# Altium footprint library Bagryanets-PcbLib.PcbLib: 38 footprints (part 1 of 3)
Each footprint in its own frame and in the unit in brackets; x right, y up, seen from the top. Pads: shape width x height; smd on the part's side, far side on the other; paste and mask are expansions set on the pad; w line width, h text height; cw(c..) or ccw(c..) is an arc to the next point about the centre after c.
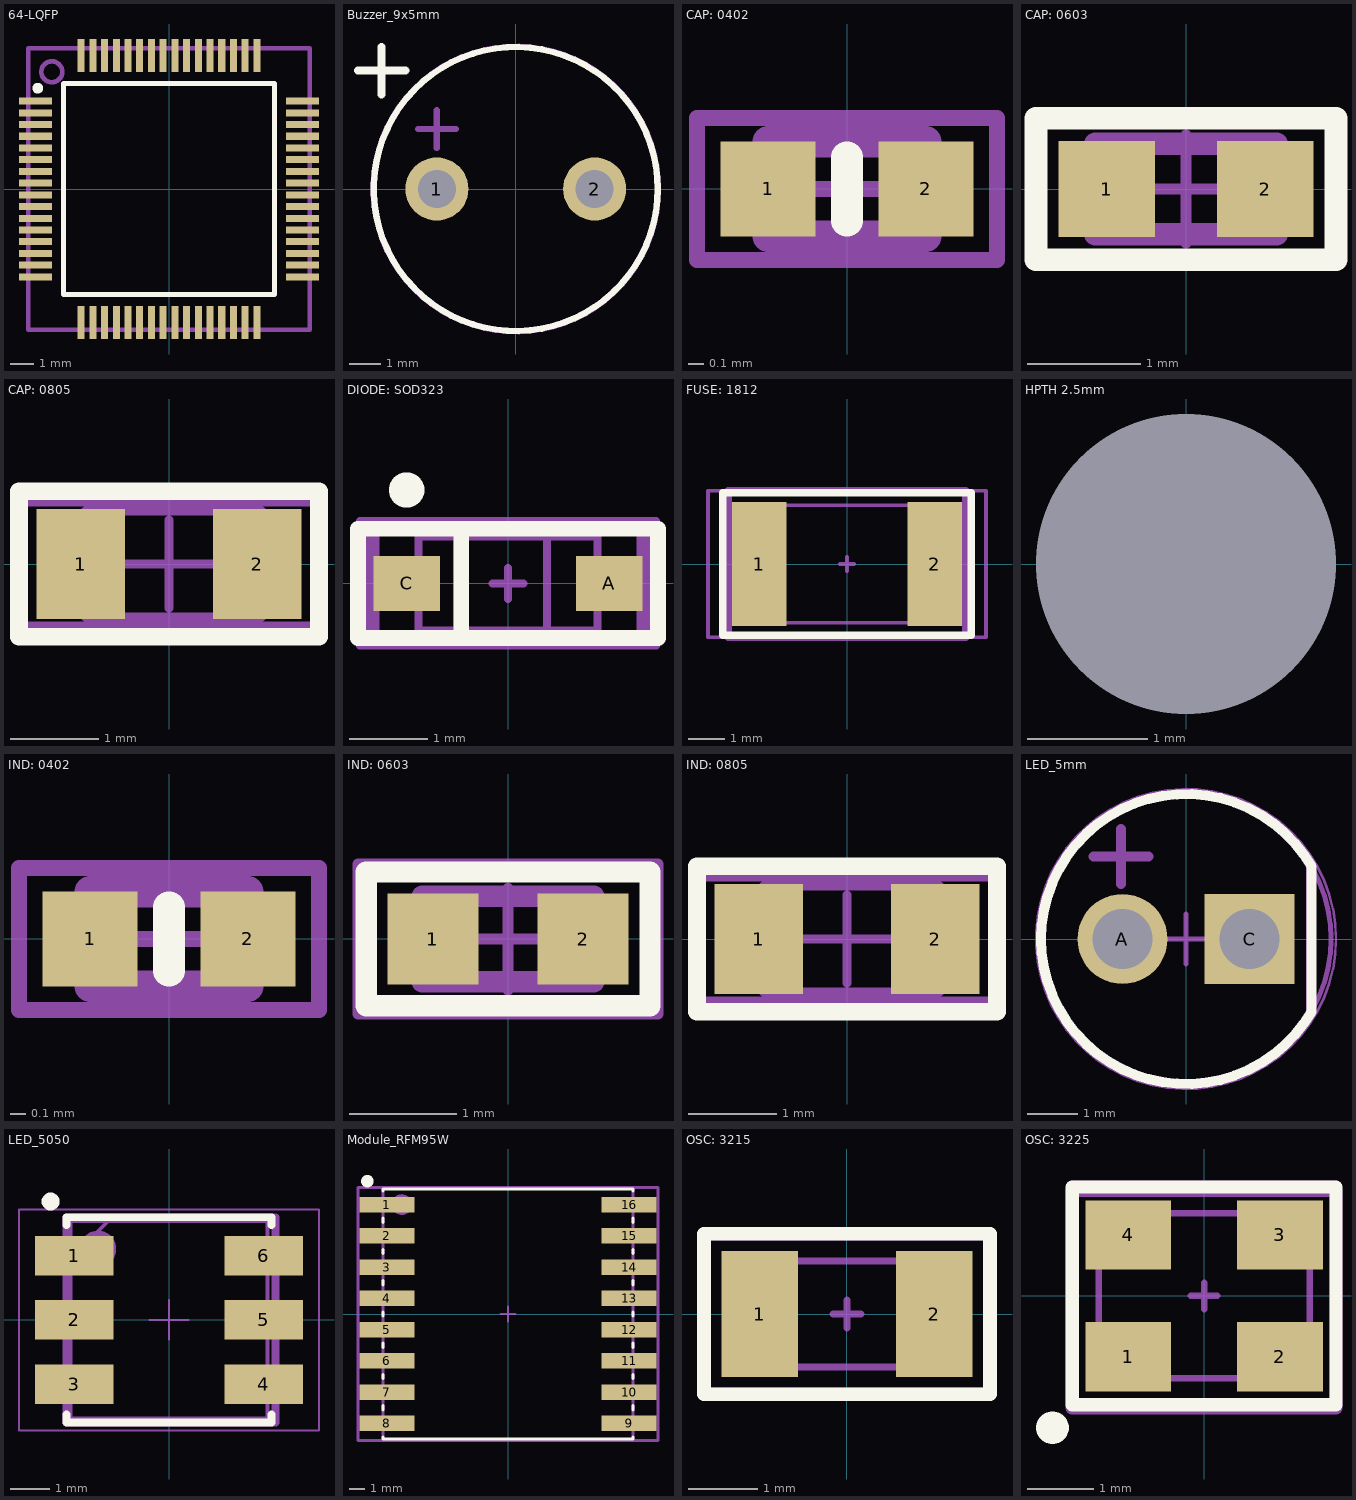
[diagram p0: the footprints below, top view; thin cyan lines are the x and y axes]

## 64-LQFP [mm] "Thin QFP, 64-Leads, Body 10x10mm, Pitch 0.5mm, IPC Medium Density"
height 1.6
pads (64):
  rect 1.4x0.3 smd: 1(-5.7,3.75) 2(-5.7,3.25) 3(-5.7,2.75) 4(-5.7,2.25) 5(-5.7,1.75) 6(-5.7,1.25) 7(-5.7,0.75) 8(-5.7,0.25) 9(-5.7,-0.25) 10(-5.7,-0.75) 11(-5.7,-1.25) 12(-5.7,-1.75) 13(-5.7,-2.25) 14(-5.7,-2.75) 15(-5.7,-3.25) 16(-5.7,-3.75) 33(5.7,-3.75) 34(5.7,-3.25) 35(5.7,-2.75) 36(5.7,-2.25) 37(5.7,-1.75) 38(5.7,-1.25) 39(5.7,-0.75) 40(5.7,-0.25) 41(5.7,0.25) 42(5.7,0.75) 43(5.7,1.25) 44(5.7,1.75) 45(5.7,2.25) 46(5.7,2.75) 47(5.7,3.25) 48(5.7,3.75)
  rect 0.3x1.4 smd: 17(-3.75,-5.7) 18(-3.25,-5.7) 19(-2.75,-5.7) 20(-2.25,-5.7) 21(-1.75,-5.7) 22(-1.25,-5.7) 23(-0.75,-5.7) 24(-0.25,-5.7) 25(0.25,-5.7) 26(0.75,-5.7) 27(1.25,-5.7) 28(1.75,-5.7) 29(2.25,-5.7) 30(2.75,-5.7) 31(3.25,-5.7) 32(3.75,-5.7) 49(3.75,5.7) 50(3.25,5.7) 51(2.75,5.7) 52(2.25,5.7) 53(1.75,5.7) 54(1.25,5.7) 55(0.75,5.7) 56(0.25,5.7) 57(-0.25,5.7) 58(-0.75,5.7) 59(-1.25,5.7) 60(-1.75,5.7) 61(-2.25,5.7) 62(-2.75,5.7) 63(-3.25,5.7) 64(-3.75,5.7)
Top Overlay:
  circle w0.254: c-5.6,4.3 r0.1
  lines w0.2: -4.5,-4.5 4.5,-4.5 4.5,4.5 -4.5,4.5 -4.5,-4.5
Top Assembly:
  circle w0.2: c-5,5 r0.447
  lines w0.2: -6,-6 -6,6 6,6 6,-6 -6,-6
  text ".Designator" at 0.25,0.75 h1.5
3D body "DD_LQFP-64-10x10mm-P0.5mm.step": height 1.5, standoff 0, extent -6,-6 6,6

## Buzzer_9x5mm [mm]
pads (2):
  round 2 hole 1.2: 1(-2.5,0) 2(2.5,0)
Top Overlay:
  circle w0.2: c0,0 r4.5
  lines w0.254: -5,3.75 -3.5,3.75 ; -4.25,3 -4.25,4.5
Top Assembly:
  circle w0.2: c0,0 r4.507
  lines w0.2: -3.1,1.9 -1.9,1.9 ; -2.5,1.3 -2.5,2.5
3D body "Buzzer_9050.step": height 5, standoff -5.5, extent -4.75,-4.75 4.75,4.75

## CAP: 0402 [mm]
height 0.35
pads (2):
  rect 0.6x0.6 smd: 1(-0.5,0) 2(0.5,0)
Top Overlay:
  lines w0.2: 0,-0.2 0,0.2
Mechanical 2:
  lines w0.1: -0.25,0 0.25,0 ; 0,-0.25 0,0.25 ; -0.95,-0.45 -0.95,0.45 0.95,0.45 0.95,-0.45 -0.95,-0.45 ; -0.5,-0.25 -0.5,0.25 0.5,0.25 0.5,-0.25 -0.5,-0.25
Top Assembly:
  lines w0.2: -0.5,-0.3 -0.5,0.3 0.5,0.3 0.5,-0.3 -0.5,-0.3
3D body "C_0402.step": height 0.5, standoff 0, extent -0.5,-0.25 0.5,0.25

## CAP: 0603 [mm]
height 0.45
pads (2):
  rect 0.85x0.85 smd: 1(-0.7,0) 2(0.7,0)
Top Overlay:
  lines w0.2: -1.325,-0.625 -1.325,0.625 1.325,0.625 1.325,-0.625 -1.325,-0.625
Mechanical 2:
  lines w0.1: -0.475,0 0.475,0 ; 0,-0.475 0,0.475 ; -1.325,-0.625 1.325,-0.625 1.325,0.625 -1.325,0.625 -1.325,-0.625 ; -0.8,-0.4 -0.8,0.4 0.8,0.4 0.8,-0.4 -0.8,-0.4
Top Assembly:
  lines w0.2: -0.8,-0.4 -0.8,0.4 0.8,0.4 0.8,-0.4 -0.8,-0.4
3D body "C_0603.step": height 0.78, standoff 0, extent -0.8,-0.405 0.8,0.405

## CAP: 0805 [mm]
height 0.45
pads (2):
  rect 1x1.25 smd: 1(-1,0) 2(1,0)
Top Overlay:
  lines w0.2: -1.7,-0.825 1.7,-0.825 1.7,0.825 -1.7,0.825 -1.7,-0.825
Mechanical 2:
  lines w0.1: -0.5,0 0.5,0 ; 0,-0.5 0,0.5 ; -1.7,-0.7 -1.7,0.7 1.7,0.7 1.7,-0.7 -1.7,-0.7 ; -0.949,-0.6 1.05,-0.6 1.05,0.6 -0.949,0.6 -0.949,-0.6
3D body "C_0805.step": height 0.78, standoff 0, extent -1,-0.625 1,0.625

## DIODE: SOD323 [mm]
pads (2):
  rect 0.85x0.7 smd: A(1.3,0) C(-1.3,0)
Top Overlay:
  circle w0.254: c-1.3,1.2 r0.1
  lines w0.2: -0.6,-0.7 -0.6,0.7 ; -1.925,-0.7 1.925,-0.7 1.925,0.7 -1.925,0.7 -1.925,-0.7
Mechanical 2:
  lines w0.1: -0.2,0 0.2,0 ; 0,-0.2 0,0.2 ; 0.5,-0.6 0.5,0.575 ; -1.9,-0.8 1.9,-0.8 1.9,0.8 -1.9,0.8 -1.9,-0.8 ; -1.15,-0.6 -1.15,0.6 1.15,0.6 1.15,-0.6 -1.15,-0.6
Top Assembly:
  lines w0.2: -0.6,-0.7 -0.6,0.7 ; -1.75,-0.75 1.75,-0.75 1.75,0.75 -1.75,0.75 -1.75,-0.75
3D body "VD_SOD-323.step": height 1.1, standoff 0, extent -1.25,-0.625 1.25,0.625

## FUSE: 1812 [mm]
height 0.6
pads (2):
  rect 1.5x3.4 smd: 1(-2.4,0) 2(2.4,0)
Top Overlay:
  lines w0.2: -3.4,-1.95 3.4,-1.95 3.4,1.95 -3.4,1.95 -3.4,-1.95
Mechanical 2:
  lines w0.1: -0.2,0 0.2,0 ; 0,-0.2 0,0.2 ; -3.8,-2 -3.8,2 3.8,2 3.8,-2 -3.7,-2 -3.8,-2 ; -2.41,-1.61 -2.41,1.61 2.41,1.61 2.41,-1.61 -2.41,-1.61
Top Assembly:
  lines w0.2: -3.25,-2 3.25,-2 3.25,2 -3.25,2 -3.25,-2
3D body "User Library-fuse1812.step": height 1.32, standoff 0, extent -2.41,-1.61 2.41,1.61

## HPTH 2.5mm [mm]
pads (1):
  round 0 hole 2.5 unplated: 1(0,0)

## IND: 0402 [mm]
height 0.5
pads (2):
  rect 0.6x0.6 smd: 1(-0.5,0) 2(0.5,0)
Top Overlay:
  lines w0.2: 0,-0.2 0,0.2
Mechanical 2:
  lines w0.1: -0.25,0 0.25,0 ; 0,-0.25 0,0.25 ; -0.95,-0.45 0.95,-0.45 0.95,0.45 -0.95,0.45 -0.95,-0.45 ; -0.5,-0.25 0.5,-0.25 0.5,0.25 -0.5,0.25 -0.5,-0.25
Top Assembly:
  lines w0.2: -0.5,-0.3 0.5,-0.3 0.5,0.3 -0.5,0.3 -0.5,-0.3
3D body "L_0402.step": height 0.5, standoff 0, extent -0.5,-0.25 0.5,0.25

## IND: 0603 [mm]
height 0.8
pads (2):
  rect 0.85x0.85 smd: 1(-0.7,0) 2(0.7,0)
Top Overlay:
  lines w0.2: -1.325,-0.625 -1.325,0.625 1.325,0.625 1.325,-0.625 -1.325,-0.625
Mechanical 2:
  lines w0.1: -0.475,0 0.475,0 ; 0,-0.475 0,0.475 ; -1.4,-0.7 1.4,-0.7 1.4,0.7 -1.4,0.7 -1.4,-0.7 ; -0.8,-0.4 -0.8,0.4 0.8,0.4 0.8,-0.4 -0.8,-0.4
Top Assembly:
  lines w0.2: -0.8,-0.4 -0.8,0.4 0.8,0.4 0.8,-0.4 -0.8,-0.4
3D body "L_0603.step": height 0.8, standoff 0, extent -0.8,-0.4 0.8,0.4

## IND: 0805 [mm]
height 1
pads (2):
  rect 1x1.25 smd: 1(-1,0) 2(1,0)
Top Overlay:
  lines w0.2: -1.7,-0.825 -1.7,0.825 1.7,0.825 1.7,-0.825 -1.7,-0.825
Mechanical 2:
  lines w0.1: -0.5,0 0.5,0 ; 0,-0.5 0,0.5 ; -1.7,-0.7 1.7,-0.7 1.7,0.7 -1.7,0.7 -1.7,-0.7 ; -0.949,-0.6 -0.949,0.6 1.05,0.6 1.05,-0.6 -0.949,-0.6
3D body "L_0805.step": height 1.25, standoff 0, extent -1,-0.625 1,0.625

## LED_5mm [mm] "THD, 2-Leads, Dia 5.8mm, Pitch 2.54mm"
pads (2):
  round 1.8 hole 1.2: A(-1.27,0)
  rect 1.8x1.8 hole 1.2: C(1.27,0)
Top Overlay:
  lines w0.2: 2.511,-1.45 cw(c0,0) 2.511,1.45 2.511,-1.45
Mechanical 2:
  circle w0.05: c0,0 r3
  lines w0.1: -0.5,0 0.5,0 ; 0,-0.5 0,0.5
Top Assembly:
  lines w0.2: -1.85,1.65 -0.75,1.65 ; -1.3,1.1 -1.3,2.2 ; 2.5,-1.5 cw(c0,0) 2.5,1.5 2.5,-1.5
Assembly:
  circle w0.1: c0,0 r2.9
3D body "User Library-LEDd5C.STEP": height 9.31, standoff -5.49, extent -2.98,-3.01 2.44,3.01

## LED_5050 [mm] "SMT Mono-color TOP LED Waterclear, body 5x5mm"
height 1.6
pads (6):
  rect 2x1 smd: 1(-2.4,1.63) 2(-2.4,0) 3(-2.4,-1.63) 4(2.4,-1.63) 5(2.4,0) 6(2.4,1.63)
Top Overlay:
  circle w0.254: c-3,3 r0.1
  lines w0.2: -2.6,-2.4 -2.6,-2.6 2.6,-2.6 2.6,-2.4 ; -2.6,2.4 -2.6,2.6 2.6,2.6 2.6,2.4
Mechanical 2:
  lines w0.05: -0.5,0 0.5,0 ; 0,-0.5 0,0.5 ; -3.8,-2.8 -3.8,2.8 3.8,2.8 3.8,-2.8 -3.8,-2.8
Top Assembly:
  circle w0.2: c-1.8,1.8 r0.361
  lines w0.2: -2.6,-2.6 2.7,-2.6 2.7,2.6 -2.6,2.6 -2.6,-2.6
Top Designator:
  text ".Designator" at -7.498,-0.5 h1.5
Top Component Outline:
  lines w0.1: -2.5,1.55 -1.55,2.5 ; -2.5,-2.5 -2.5,2.5 2.5,2.5 2.5,-2.5 -2.5,-2.5
3D body "VD_LED_5050.step": height 1.4, standoff -0.15, extent -2.75,-2.5 2.75,2.5

## Module_RFM95W [mm]
pads (16):
  rect 3.5x1 smd paste+0 mask+0: 1(-7.75,7) 2(-7.75,5) 3(-7.75,3) 4(-7.75,1) 5(-7.75,-1) 6(-7.75,-3) 7(-7.75,-5) 8(-7.75,-7) 9(7.75,-7) 10(7.75,-5) 11(7.75,-3) 12(7.75,-1) 13(7.75,1) 14(7.75,3) 15(7.75,5) 16(7.75,7)
Top Overlay:
  circle w0.4: c-9,8.5 r0.2
  lines w0.2: -8,-7.875 -8,-8 8,-8 8,-7.875 ; -8,-6.125 -8,-5.875 ; -8,-4.125 -8,-3.875 ; -8,-2.125 -8,-1.875 ; -8,-0.125 -8,0.125 ; -8,1.875 -8,2.125 ; -8,3.875 -8,4.125 ; -8,5.875 -8,6.125 ; -8,7.875 -8,8 8,8 8,7.875 ; 8,-6.125 8,-5.875 ; 8,-4.125 8,-3.875 ; 8,-2.125 8,-1.875 ; 8,-0.125 8,0.125 ; 8,1.875 8,2.125 ; 8,3.875 8,4.125 ; 8,5.875 8,6.125
Mechanical 2:
  lines w0.2: -9.6,-8.1 9.6,-8.1 9.6,8.1 -9.6,8.1 -9.6,-8.1
Top Assembly:
  circle w0.2: c-6.8,7 r0.566
  lines w0.2: -8,-8.1 8,-8.1 8,8.1 -8,8.1 -8,-8.1
  text ".Designator" at 0,-0.001 h1
Top Component Center:
  lines w0.1: -0.5,0 0.5,0 ; 0,-0.5 0,0.5
3D body "UNK_RF_Solutions_RFM95W-868S2_eec.STEP": height 0.25, standoff 0, extent -9.6,-8.1 9.6,8.1

## OSC: 3215 [mm]
pads (2):
  rect 1.1x1.8 smd: 1(-1.25,0) 2(1.25,0)
Top Overlay:
  lines w0.2: -2.05,-1.15 -2.05,1.15 2.05,1.15 2.05,-1.15 -2.05,-1.15
Mechanical 2:
  lines w0.1: -0.2,0 0.2,0 ; 0,-0.2 0,0.2 ; -2.05,-1.1 -2.05,1.1 2.05,1.1 2.05,-1.1 -2.05,-1.1 ; -1.61,-0.76 1.61,-0.76 1.61,0.76 -1.61,0.76 -1.61,-0.76
3D body "ZQ_3215.step": height 0.8, standoff 0, extent -1.6,-0.75 1.6,0.75

## OSC: 3225 [mm]
height 0.55
pads (5):
  rect 1.3x1.05 smd: 1(-1.15,-0.925) 2(1.15,-0.925) 3(1.15,0.925) 4(-1.15,0.925)
  round 0.5 on Top Overlay: ""(-2.3,-2)
Top Overlay:
  lines w0.2: -2,-1.65 2,-1.65 2,1.65 -2,1.65 -2,-1.65
Mechanical 2:
  lines w0.1: -0.2,0 0.2,0 ; 0,-0.2 0,0.2 ; -2,-1.7 -2,1.7 2,1.7 2,1.6 2,-1.7 -2,-1.7 ; -1.6,-1.25 -1.6,1.25 1.6,1.25 1.6,-1.25 -1.6,-1.25
Top Assembly:
  circle w0.4: c-1.2,-0.9 r0.2
  lines w0.2: -2,-1.7 -2,1.6 2,1.6 2,-1.7 -2,-1.7
3D body "ZQ_3225.step": height 0.61, standoff 0, extent -1.6,-1.21 1.6,1.29